# EAGLE library part CDCLVC1110 (library texas)
High-Performance Clock Buffer 3.3 V and 2.5 V LVCMOS
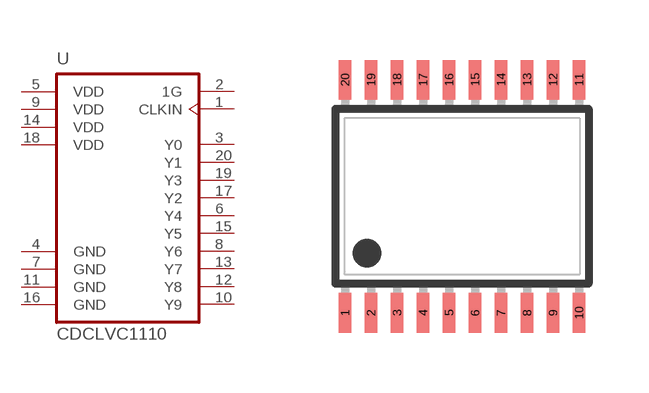
[diagram p45: symbol with the pads of TSSOP20; footprint TSSOP20]

Designator prefix U

## CDCLVC1110PW  [TSSOP20]
1  CLKIN  in
2  1G  in
3  Y0  out
4  GND  pwr
5  VDD  pwr
6  Y4  out
7  GND  pwr
8  Y6  out
9  VDD  pwr
10  Y9  out
11  GND  pwr
12  Y8  out
13  Y7  out
14  VDD  pwr
15  Y5  out
16  GND  pwr
17  Y2  out
18  VDD  pwr
19  Y3  out
20  Y1  out

## Footprint TSSOP20 (pad centres in mm)
Thin Shrink Small Outline Plastic 20
smd 0.305 x 0.991: 1 -2.925,-2.918; 2 -2.275,-2.918; 3 -1.625,-2.918; 4 -0.975,-2.918; 5 -0.325,-2.918; 6 0.325,-2.918; 7 0.975,-2.918; 8 1.625,-2.918; 9 2.275,-2.918; 10 2.925,-2.918; 11 2.925,2.918; 12 2.275,2.918; 13 1.625,2.918; 14 0.975,2.918; 15 0.325,2.918; 16 -0.325,2.918; 17 -0.975,2.918; 18 -1.625,2.918; 19 -2.275,2.918; 20 -2.925,2.918